# EAGLE library part CONN_10 (library CougsInSpace)
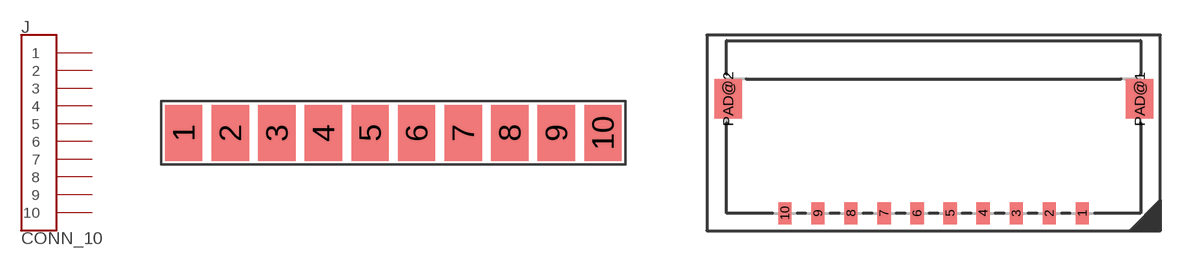
[diagram p8: symbol with the pads of 1X10_SMD-2.5MM; footprints 1X10_SMD-2.5MM, 1X10_PICOLOCK1.5MM]

Designator prefix J

## CONN_10SMD-2.5MM  [1X10_SMD-2.5MM]
1  1
2  2
3  3
4  4
5  5
6  6
7  7
8  8
9  9
10  10

## CONN_10PICOLOCK  [1X10_PICOLOCK1.5MM]
Pads as for 1X10_SMD-2.5MM

## Footprint 1X10_SMD-2.5MM (pad centres in mm)
smd 2 x 3: 1 -11.25,0; 2 -8.75,0; 3 -6.25,0; 4 -3.75,0; 5 -1.25,0; 6 1.25,0; 7 3.75,0; 8 6.25,0; 9 8.75,0; 10 11.25,0

## Footprint 1X10_PICOLOCK1.5MM (pad centres in mm)
smd 0.6 x 1: 1 6.75,0; 2 5.25,0; 3 3.75,0; 4 2.25,0; 5 0.75,0; 6 -0.75,0; 7 -2.25,0; 8 -3.75,0; 9 -5.25,0; 10 -6.75,0
smd 1.25 x 1.8: PAD@1 9.355,5.2; PAD@2 -9.333,5.2